# EAGLE library part MMA7331L (library xmaker)
Freescale Semiconductor MMA7331 Series ±4g ±12g 3 Axis 3.6 V Micromachined Accelerometer - LGA-14
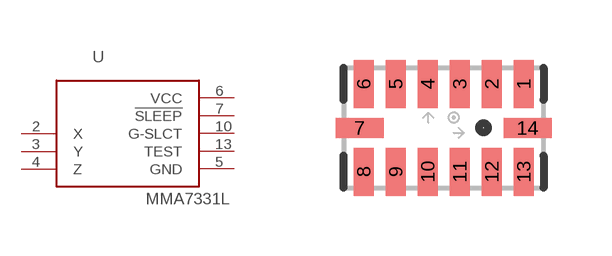
[diagram p8: symbol with the pads of LGA14; footprint LGA14]

Designator prefix U

## MMA7331L  [LGA14]
2  X
3  Y
4  Z
5  GND
6  VCC
7  !SLEEP
10  G-SLCT
13  TEST

## Footprint LGA14 (pad centres in mm)
(Copy from SFE Footprint Library.)
smd 0.5 x 1.2: 1 2,1.1; 2 1.2,1.1; 3 0.4,1.1; 4 -0.4,1.1; 5 -1.2,1.1; 6 -2,1.1; 8 -2,-1.1; 9 -1.2,-1.1; 10 -0.4,-1.1; 11 0.4,-1.1; 12 1.2,-1.1; 13 2,-1.1
smd 1.2 x 0.5: 7 -2.1,0; 14 2.1,0